# EAGLE library part 22-04-1081 (library Connectors-Molex)
Header 2.5mm WTB,vert, friction ramp, 8w Molex KK Series, Series Number 5045, 2.5mm Pitch 8 Way 1 Row Straight PCB Header, Solder Termination, 3A Source: Datasheet <https://www.molex.com/pdm_docs/sd/022041081_sd.pdf>
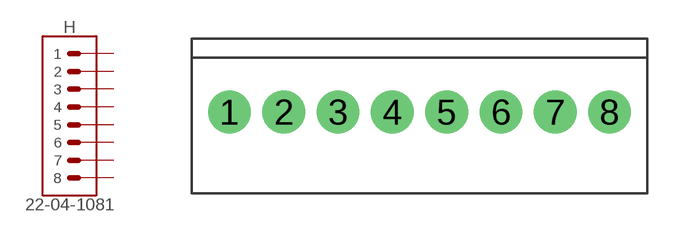
[diagram p2: symbol with the pads of MOLEX-HEADER-2.54-8P; footprint MOLEX-HEADER-2.54-8P]

Designator prefix H

## 22-04-1081 (DATASHEET: value; DESCRIPTION: Header 2.5mm WTB,vert, friction ramp, 8w Molex KK Series, Series Number 5045, 2.5mm Pitch 8 Way 1 Row Straight PCB Header, Solder Termination, 3A; DIGIKEY-PART-NUMBER: value; LINK: value; MANUFACTURER: value; MPN: value; TECHNOLOGY: value; UNIT-PRICE: value)  [MOLEX-HEADER-2.54-8P]
1  1
2  2
3  3
4  4
5  5
6  6
7  7
8  8

## Footprint MOLEX-HEADER-2.54-8P (pad centres in mm)
22-04-1081
drill 1.1 pad 2: 1 -8.89,0; 2 -6.35,0; 3 -3.81,0; 4 -1.27,0; 5 1.27,0; 6 3.81,0; 7 6.35,0; 8 8.89,0